# Altium integrated library MURS160.IntLib: 1 symbol
Pins are listed as number, name and electrical type; pins without a type are passive.

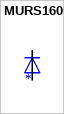
[diagram p0: symbol MURS160]

## MURS160
designator ?
Diode Standard 600V 1A Surface Mount SMB; MP: MURS160; MF: World Products; Availability: Unavailable; SnapEDA_Link: https://www.snapeda.com/parts/MURS160/World%20Products/view-part/564901/?ref=snap; Package: DO-214AA-214 World Products; Price: None; Value: *
footprint CASE_403A-03
pins: P$1 A, P$2 C